# Altium footprint library HEIMDALL-DEVPICKIT-V2.2.PcbLib: 22 footprints (part 1 of 2)
Each footprint in its own frame and in the unit in brackets; x right, y up, seen from the top. Pads: shape width x height; smd on the part's side, far side on the other; paste and mask are expansions set on the pad; w line width, h text height; cw(c..) or ccw(c..) is an arc to the next point about the centre after c.
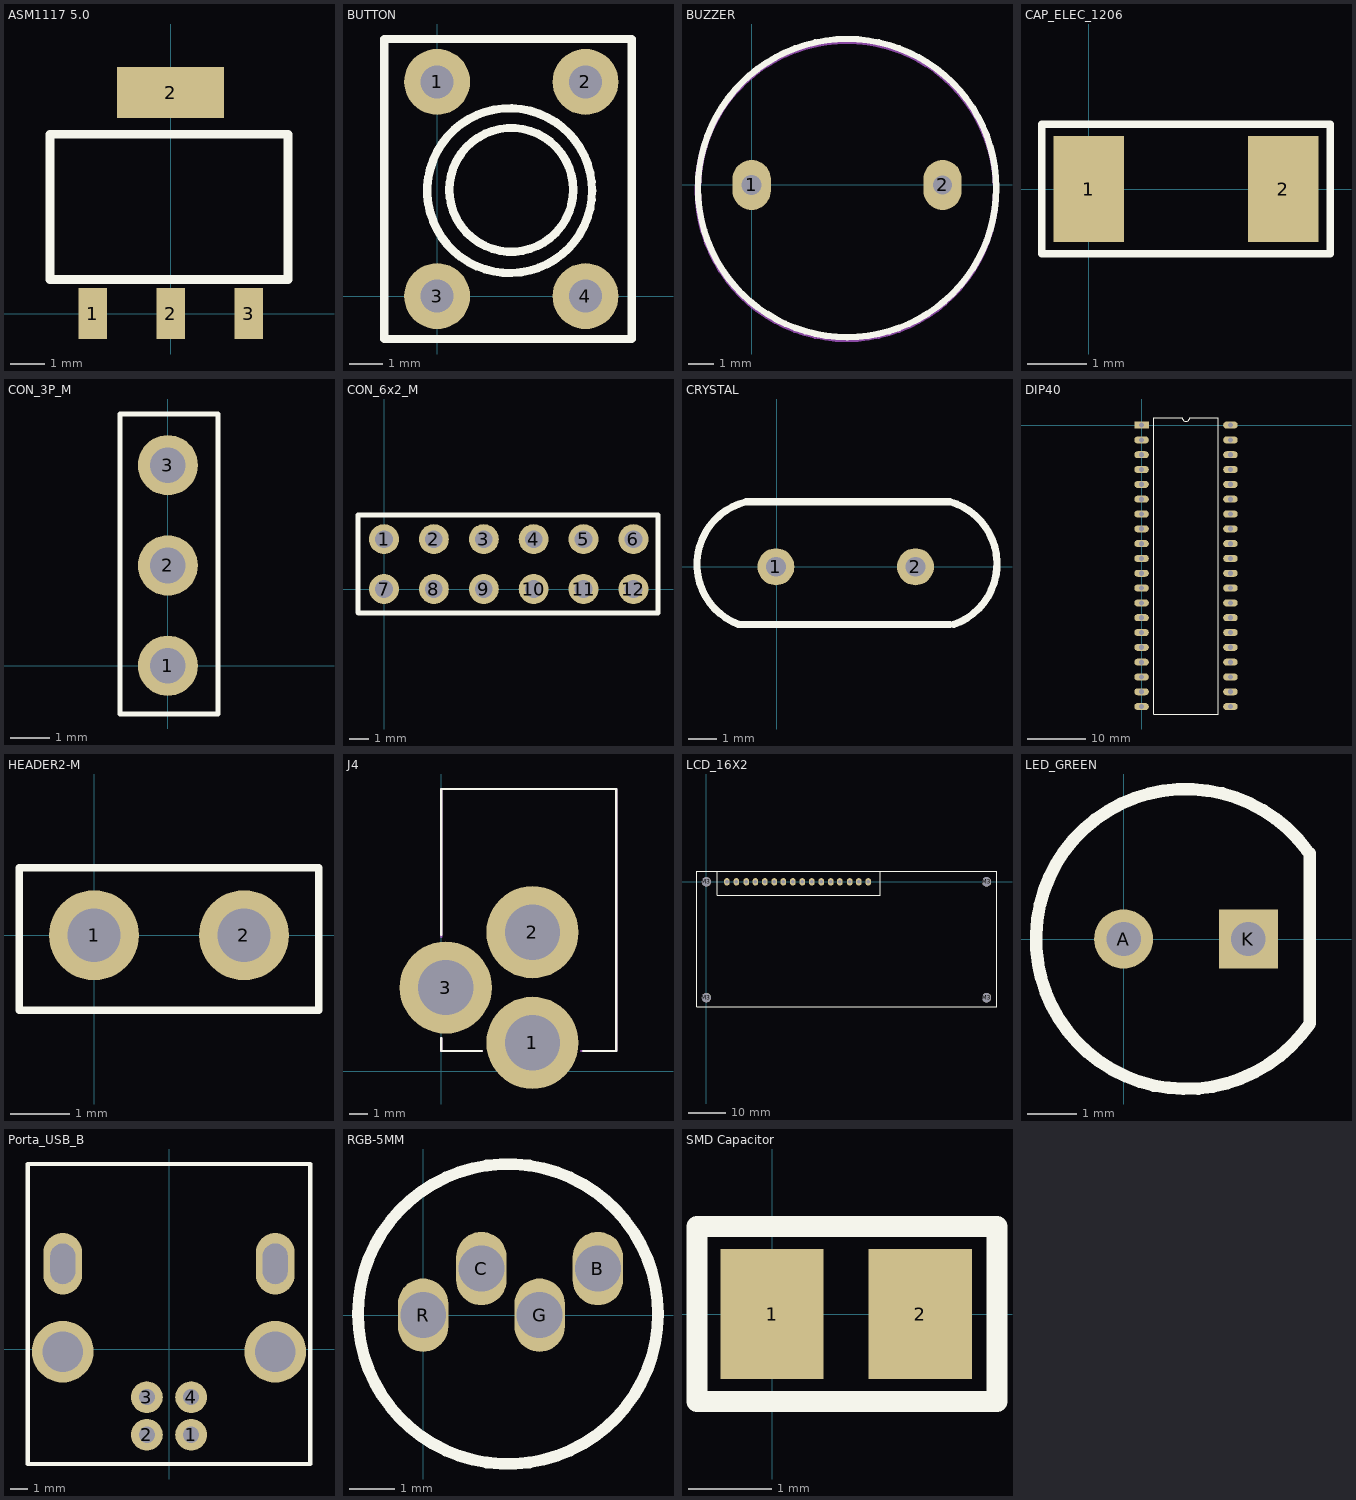
[diagram p0: the footprints below, top view; thin cyan lines are the x and y axes]

## ASM1117 5.0 [mm]
pads (4):
  rect 0.84x1.5 smd: 1(-2.29,0) 2(0,0) 3(2.29,0)
  rect 3.15x1.5 smd: 2(0,6.5)
Top Overlay:
  lines w0.254: -3.55,1 3.45,1 3.45,5.275 -3.55,5.275 -3.55,1
3D body "SOT-223.step": height 1.7, standoff 0.02, extent -3.275,-0.305 3.225,6.655

## BUTTON [mm]
pads (4):
  round 2 hole 1: 1(0,6.5) 2(4.5,6.5) 3(0,0) 4(4.5,0)
Top Overlay:
  circle w0.254: c2.25,3.225 r1.878
  circle w0.254: c2.2,3.2 r2.5
  lines w0.254: -1.6,-1.3 -1.6,7.8 5.9,7.8 5.9,-1.3 -1.6,-1.3
Mechanical 13:
  text "'.Designator'" at 0.8,3 h1.6
3D body "User Library-FSM2JH(1825910-2).step": height 4.3, standoff -3.51, extent -0.836,-0.469 5.154,7.329

## BUZZER [mm]
pads (2):
  oval 1.524x2 hole 0.8: 1(0,0)
  oval 1.524x2 hole 0.762: 2(7.62,0)
Top Overlay:
  circle w0.254: c3.81,-0.127 r5.951
Mechanical 29:
  circle w0.254: c3.8,-0.2 r5.951
  text "'.Designator'" at 1,-0.4 h1.6
3D body "User Library-Buzzer CEM-1205C.step": height 9, standoff -4, extent -2.19,-6.127 9.81,5.873

## CAP_ELEC_1206 [mm]
pads (2):
  rect 1.2x1.8 smd: 1(0,0) 2(3.3,0)
Top Overlay:
  lines w0.127: -0.8,-1.1 -0.8,1.1 4.1,1.1 4.1,-1.1 -0.8,-1.1
3D body "c1206c101j5gactu.stp": height 0.92, standoff 0.04, extent -0.1,-0.9 3.3,0.9

## Capacitor [mm]

## CON_3P_M [mil]
pads (3):
  round 60 hole 35.43: 1(0,0) 2(0,100) 3(0,200)
Top Overlay:
  lines w5: -47.95,-48.03 50.2,-48.03 50.2,250.98 -47.95,250.98 -47.95,-48.03
3D body "Header_Male_3Pin.STEP": height 336.22, standoff -118.11, extent -47.24,-48.62 50.78,251.38

## CON_6x2_M [mil]
pads (12):
  round 60 hole 35.43: 1(0,100) 2(100,100) 3(200,100) 4(300,100) 5(400,100) 6(500,100) 7(0,0) 8(100,0) 9(200,0) 10(300,0) 11(400,0) 12(500,0)
Top Overlay:
  lines w10: -52.17,-47.24 -51.18,-48.23 549.21,-48.23 549.21,148.62 -52.17,148.62 -52.17,-47.24
3D body "Header_Male_6x2Pin.STEP": height 338.05, standoff -116.28, extent -50.79,-47.84 549.21,148.23

## CRYSTAL [mm]
pads (2):
  round 1.3 hole 0.7: 1(-0.026,0) 2(4.88,0)
Top Overlay:
  lines w0.254: 6.096,-2.032 -1.33,-2.032 cw(c-0.537,0.088) -1.076,2.286 6.096,2.286 cw(c5.484,0.107) 6.223,-2.032
Mechanical 13:
  text "'.Designator'" at 1.1,-0.2 h1.6
3D body "User Library-HC49S-1.STEP": height 3.6, standoff -3, extent -2.979,-2.159 8.001,2.332

## DIP40 [mm]
pads (40):
  rect 2.5x1.2 hole 0.9: 1(0,0)
  oval 2.5x1.2 hole 0.9: 2(0,-2.54) 3(0,-5.08) 4(0,-7.62) 5(0,-10.16) 6(0,-12.7) 7(0,-15.24) 8(0,-17.78) 9(0,-20.32) 10(0,-22.86) 11(0,-25.4) 12(0,-27.94) 13(0,-30.48) 14(0,-33.02) 15(0,-35.56) 16(0,-38.1) 17(0,-40.64) 18(0,-43.18) 19(0,-45.72) 20(0,-48.26) 21(15.24,-48.26) 22(15.24,-45.72) 23(15.24,-43.18) 24(15.24,-40.64) 25(15.24,-38.1) 26(15.24,-35.56) 27(15.24,-33.02) 28(15.24,-30.48) 29(15.24,-27.94) 30(15.24,-25.4) 31(15.24,-22.86) 32(15.24,-20.32) 33(15.24,-17.78) 34(15.24,-15.24) 35(15.24,-12.7) 36(15.24,-10.16) 37(15.24,-7.62) 38(15.24,-5.08) 39(15.24,-2.54) 40(15.24,0)
Top Overlay:
  lines w0.2: 2.085,-49.53 2.085,1.27 6.985,1.27 ccw(c7.62,1.27) 8.255,1.27 13.155,1.27 13.155,-49.53 2.085,-49.53
Mechanical 13:
  text "'.Designator'" at 7.9,-27.8 h1.6
3D body "User Library-DIP40-600.step": height 10.7, standoff 2.42, extent -0.125,-50.355 15.365,2.095
3D body "User Library-DIP40-600-1.step": height 4.8, standoff -3.5, extent -1.344,-49.353 16.256,1.347

## HEADER2-M [mil]
pads (2):
  round 60 hole 35.43: 1(0,0) 2(100,0)
Top Overlay:
  lines w5: -50,-50 150,-50 150,45 -50,45 -50,-50
Mechanical 29:
  text "'.Designator'" at -27.56,-11.81 h62.99
3D body "User Library-Header_Male_2Pin.STEP": height 336.22, standoff -118.11, extent -50,-49.01 150,49.02

## J4 [mm]
pads (3):
  round 5 hole 3: 1(4.953,1.54) 2(4.953,7.54) 3(0.253,4.54)
Top Overlay:
  lines w0.127: 0,1.8 0,1.1 2.2,1.1 ; 0,7.4 0,15.3 2.013,15.3 7.893,15.3 9.5,15.3 9.5,1.1 7.7,1.1
Mechanical 13:
  lines w0.127: 0,1.8 0,1.1 2.2,1.1 ; 0,7.3 0,15.3 9.5,15.3 9.5,1.1 7.6,1.1
Mechanical 29:
  text "'.Designator'" at 7.9,14.9 h1.6
3D body "3100-522 Connector.stp": height 11, standoff -3.5, extent 0.053,1.14 9.453,15.24

## LCD_16X2 [mm]
pads (20):
  oval 1.5x2 hole 1: 1(5.5,0) 2(8.04,0) 3(10.707,0) 4(13.12,0) 5(15.66,0) 6(18.2,0) 7(20.613,0) 8(23.153,0) 9(25.693,0) 10(28.233,0) 11(30.773,0) 12(33.313,0) 13(35.726,0) 14(38.393,0) 15(40.806,0) 16(43.346,0)
  round 2.5 hole 2.5: M3(0,-31) M3(0,0) M3(75,-31) M3(75,0)
Top Overlay:
  lines w0.254: 2.96,2.8 2.96,-3.556 46.521,-3.556 46.521,2.8 ; -2.501,-33.4 -2.501,2.8 77.8,2.8 77.8,-33.4 -2.501,-33.4
Mechanical 29:
  text "'.Designator'" at 28.2,-14.3 h1.6
3D body "User Library-LCD 16x2 WC1602A0-SFYLNC06.step": height 22.4, standoff 9.5, extent -2.496,-33.367 77.754,2.633

## LED_GREEN [mm]
pads (2):
  round 1.2 hole 0.7: A(0,0)
  rect 1.2x1.2 hole 0.7: K(2.54,0)
Top Overlay:
  lines w0.2: 3.725,1.809 3.79,1.745
  lines w0.254: 3.725,1.809 ccw(c1.27,0) 3.79,-1.718 3.79,1.745
Mechanical 13:
  text "'.Designator'" at -0.4,1.4 h1.6
3D body "User Library-LED-D5G.step": height 9.94, standoff -5.5, extent -1.73,-3 3.77,3

## Porta_USB_B [mm]
pads (8):
  round 1.8 hole 0.92: 1(1.25,-4.845) 2(-1.25,-4.845) 3(-1.25,-2.71) 4(1.25,-2.71)
  round 3.5 hole 2.3: ""(-6.02,-0.135) ""(6.02,-0.135)
  oval 2.2x3.5 hole 2.3 slot 1.4 at 0 deg: ""(-6.02,4.845) ""(6.02,4.845)
Top Overlay:
  lines w0.254: -8,-6.5 -8,10.5 8,10.5 8,-6.5 7.5,-6.5 -7.5,-6.5 -8,-6.5
3D body "Porta_USB_B.step": height 11, standoff -3.72, extent -7.45,-6.15 7.45,10.15

## RGB-5MM [mm]
pads (4):
  oval 1.1x1.6 hole 1: B(3.81,1.016) C(1.27,1.016) G(2.54,0) R(0,0)
Top Overlay:
  circle w0.254: c1.85,0.025 r3.272
3D body "User Library-LED RGB.step": height 11.6, standoff -3, extent -0.949,-2.979 4.505,2.921

## SMD Capacitor [mm]
pads (2):
  rect 1.24x1.565 smd: 1(0,0) 2(1.78,0)
Top Overlay:
  lines w0.254: -0.9,-1.05 2.7,-1.05 2.7,1.05 -0.9,1.05 -0.9,-1.05
3D body "capacitor C0805-2.step": height 0.8, standoff 0, extent -0.1,-0.625 1.9,0.625